# EAGLE library part MICROSD (library shack)
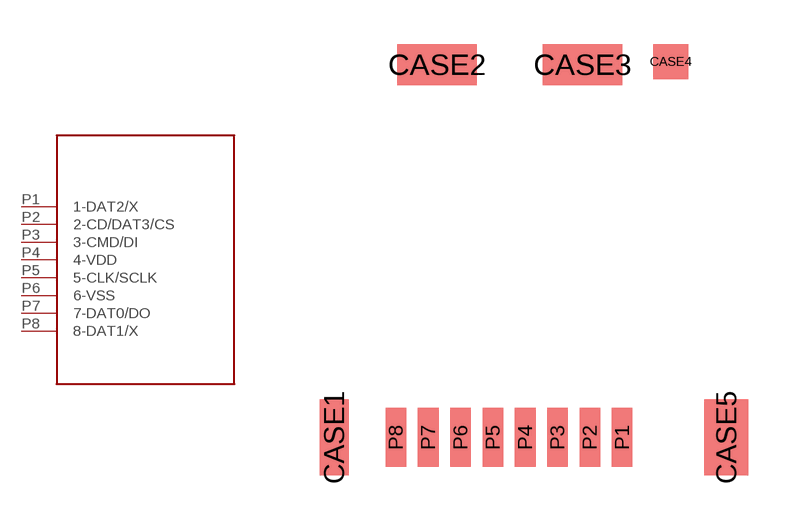
[diagram p8: symbol with the pads of HR1972CT-ND; footprint HR1972CT-ND]

Designator prefix -

## MICROSD  [HR1972CT-ND]
P1  1-DAT2/X
P2  2-CD/DAT3/CS
P3  3-CMD/DI
P4  4-VDD
P5  5-CLK/SCLK
P6  6-VSS
P7  7-DAT0/DO
P8  8-DAT1/X

## Footprint HR1972CT-ND (pad centres in mm)
smd 1 x 2.6: CASE1 -6.6,0
smd 2.7 x 1.4: CASE2 -3.1,12.7; CASE3 1.85,12.7
smd 1.2 x 1.2: CASE4 4.85,12.8
smd 1.5 x 2.6: CASE5 6.75,0
smd 0.7 x 2: P1 3.2,0; P2 2.1,0; P3 1,0; P4 -0.1,0; P5 -1.2,0; P6 -2.3,0; P7 -3.4,0; P8 -4.5,0